# Altium schematic symbol library LMR33620-Q1.SchLib: 1 symbol
Pins are listed as number, name and electrical type; pins without a type are passive.

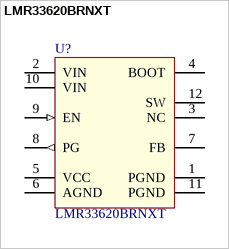
[diagram p0: symbol LMR33620BRNXT]

## LMR33620BRNXT
designator U?
3.8-V to 36-V, 2-A Synchronous step-down voltage converter; Value: LMR33620BRNXT
footprint VQFN-HR-12 (VQFN-HR, 12-Leads, Body 2,00x3,00mm, Pitch 0,50mm, IPC Medium Density)
pins: 1 PGND (power), 2 VIN (power), 3 NC, 4 BOOT, 5 VCC (power), 6 AGND (power), 7 FB, 8 PG (out), 9 EN (in), 10 VIN (power), 11 PGND (power), 12 SW (power)